# EAGLE library part INA148UA (library INA148UA)
INA148UA, Differential Amplifier 3, 5, 9, 12, 15, 18, 24, 28V 8-Pin SOIC Source: Datasheet <http://uk.rs-online.com/web/p/products/1003838>
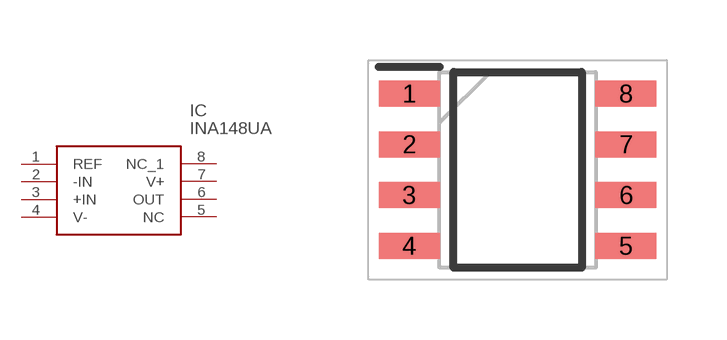
[diagram p0: symbol with the pads of SOIC127P600X175-8N; footprint SOIC127P600X175-8N]

Designator prefix IC

## INA148UA (Description: INA148UA, Differential Amplifier 3, 5, 9, 12, 15, 18, 24, 28V 8-Pin SOIC; Height: 1.75mm; Manufacturer_Name: Texas Instruments; Manufacturer_Part_Number: INA148UA; RS_Part_Number: 1003838)  [SOIC127P600X175-8N]
1  REF  in
2  -IN  in
3  +IN  in
4  V-
5  NC  nc
6  OUT  out
7  V+
8  NC_1

## Footprint SOIC127P600X175-8N (pad centres in mm)
D (R-PDSO-G8)
smd 1.525 x 0.65: 1 -2.712,1.905; 2 -2.712,0.635; 3 -2.712,-0.635; 4 -2.712,-1.905; 5 2.712,-1.905; 6 2.712,-0.635; 7 2.712,0.635; 8 2.712,1.905